# EAGLE library part DUAL (library pedals-integrated circuits)
OP AMP
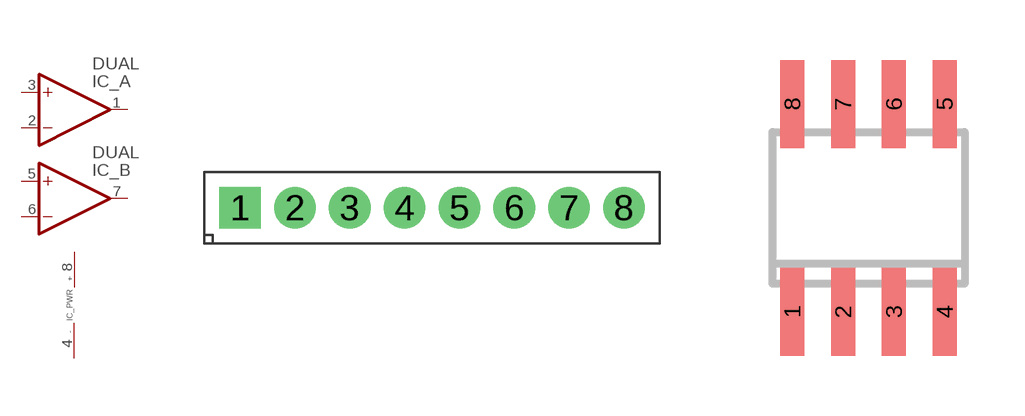
[diagram p14: symbol with the pads of SIL08; footprints SIL08, SO08]

Designator prefix IC; gates _A=OPAMP _B=OPAMP _PWR=PWR+-

## DUALSIL  [SIL08]
1  _A:OUT  out
2  _A:-IN  in
3  _A:+IN  in
4  _PWR:V-  pwr
5  _B:+IN  in
6  _B:-IN  in
7  _B:OUT  out
8  _PWR:V+  pwr

## DUALSMD  [SO08]
Pads as for SIL08

## DUALTH  [DIL0]
Pads as for SIL08

## DUAL  [SIL09]
2  _A:OUT  out
3  _A:-IN  in
4  _A:+IN  in
5  _PWR:V-  pwr
6  _B:+IN  in
7  _B:-IN  in
8  _B:OUT  out
9  _PWR:V+  pwr

## Footprint SIL08 (pad centres in mm)
drill 1 pad 1.93 square: 1 0,0
drill 1 pad 1.93: 2 2.54,0; 3 5.08,0; 4 7.62,0; 5 10.16,0; 6 12.7,0; 7 15.24,0; 8 17.78,0

## Footprint SO08 (pad centres in mm)
Small Outline Package 8 NS Package M08A
smd 0.6 x 2.2: 1 -1.905,-2.6; 2 -0.635,-2.6; 3 0.635,-2.6; 4 1.905,-2.6; 5 1.905,2.6; 6 0.635,2.6; 7 -0.635,2.6; 8 -1.905,2.6

## Footprint DIL0 (pad centres in mm)
Dual In Line Package
drill 0.813 pad 1.27: 1 -3.81,-3.81; 2 -1.27,-3.81; 3 1.27,-3.81; 4 3.81,-3.81; 5 3.81,3.81; 6 1.27,3.81; 7 -1.27,3.81; 8 -3.81,3.81

## Footprint SIL09 (pad centres in mm)
drill 1 pad 1.93 square: 1 0,0
drill 1 pad 1.93: 2 2.54,0; 3 5.08,0; 4 7.62,0; 5 10.16,0; 6 12.7,0; 7 15.24,0; 8 17.78,0; 9 20.32,0